# Altium schematic symbol library JLCPCB_OP_AMP_SMD.SchLib: 4 symbols
Pins are listed as number, name and electrical type; pins without a type are passive.

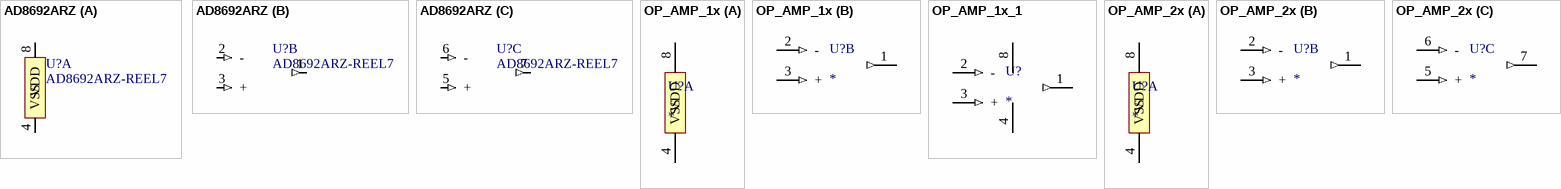
[diagram p0: symbols AD8692ARZ to OP_AMP_2x]

## AD8692ARZ
designator U?, comment AD8692ARZ-REEL7
General Purpose 2 2.7V ~ 5.5V, ±1.35V ~ 2.75V 10MHz 5 V/us SOIC-8_150mil Operational Amplifiers RoHS; Manufacturer: Analog Devices; Rail-to-rail: Yes; Supply_voltage(min): 2.5V; ComponentLink1Description: Datasheet; ComponentLink1URL: *; JLCPCB_Part#: C90875; Supply_voltage(max): 5.5V; Footprint: SOIC-8_3.9x4.9x1.27P; MFR_Part#: AD8692ARZ-REEL7
footprint SOIC8
part A pins: 4 VSS (power), 8 VDD (power)
part B pins: 1 VOUTA (out), 2 - (in) "VINA-", 3 + (in) "VINA+"
part C pins: 5 + (in) "VINA+", 6 - (in) "VINA-", 7 VOUTB (out)

## OP_AMP_1x
designator U?
ComponentLink1Description: Datasheet; ComponentLink1URL: *; Manufacturer: *; MFR_Part#: *; JLCPCB_Part#: *; Rail-to-rail: *; Supply_voltage(max): *; Supply_voltage(min): *
part A pins: 4 VSS (power), 8 VDD (power)
part B pins: 1 VOUTA (out), 2 - (in) "VINA-", 3 + (in) "VINA+"

## OP_AMP_1x_1
designator U?
ComponentLink1Description: Datasheet; ComponentLink1URL: *; Manufacturer: *; MFR_Part#: *; JLCPCB_Part#: *; Rail-to-rail: *; Supply_voltage(max): *; Supply_voltage(min): *
pins: 1 VOUTA (out), 2 - (in) "VINA-", 3 + (in) "VINA+", 4 VSS (power), 8 VDD (power)

## OP_AMP_2x
designator U?
ComponentLink1Description: Datasheet; ComponentLink1URL: *; Manufacturer: *; MFR_Part#: *; JLCPCB_Part#: *; Rail-to-rail: *; Supply_voltage(max): *; Supply_voltage(min): *
footprint SOIC8
part A pins: 4 VSS (power), 8 VDD (power)
part B pins: 1 VOUTA (out), 2 - (in) "VINA-", 3 + (in) "VINA+"
part C pins: 5 + (in) "VINA+", 6 - (in) "VINA-", 7 VOUTB (out)